# Altium schematic symbol library TPI_time_timer.SCHLIB: 59 symbols
Pins are listed as number, name and electrical type; pins without a type are passive.

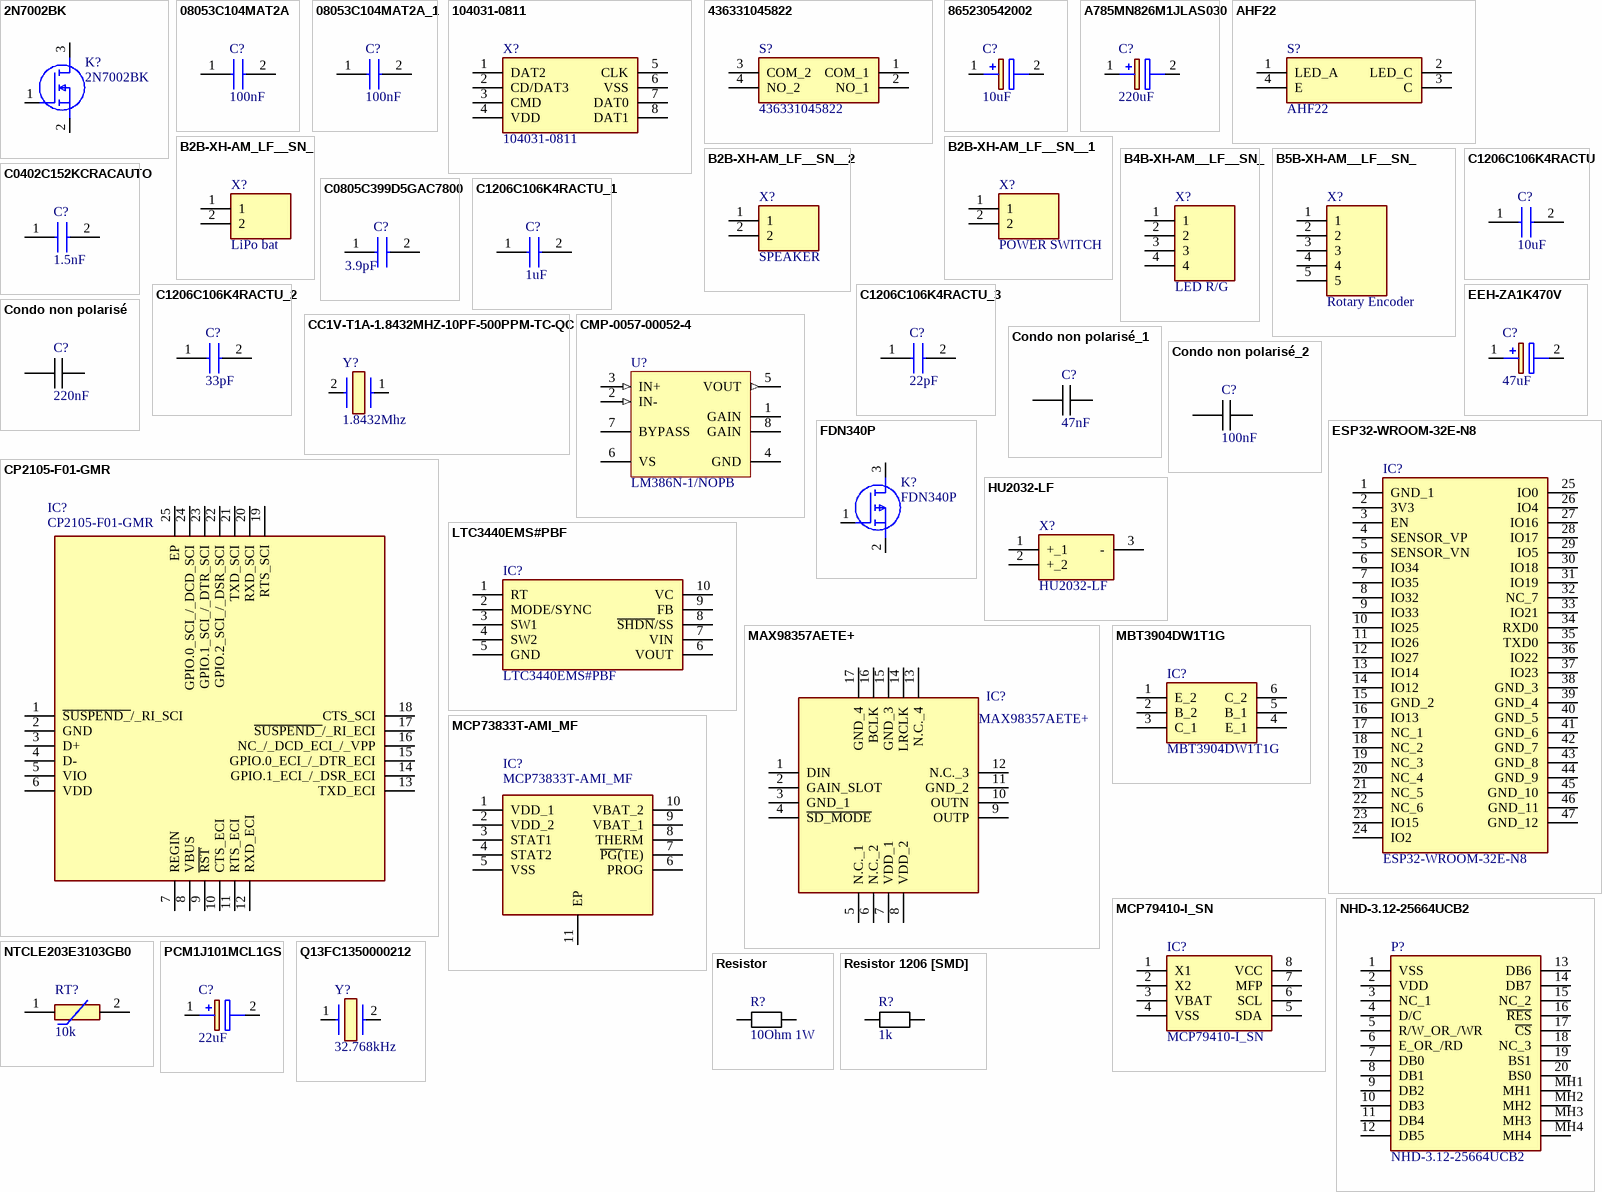
[diagram p0: symbols 2N7002BK to Resistor 1206 [SMD]]

## 2N7002BK
designator K?
MOSFET (N-Channel); Manufacturer_Name: Nexperia; Datasheet Link: https://componentsearchengine.com/Datasheets/2/2N7002BK.pdf; Height: 1.1mm; Manufacturer_Part_Number: 2N7002BK; Mouser Part Number: N/A; Mouser Price/Stock: https://www.mouser.co.uk/ProductDetail/Nexperia/2N7002BK?qs=vHuUswq2%252Bsy7zq%252BdG1DqyA%3D%3D
footprint TL431CDBZR215
pins: 1 G, 2 S, 3 D

## 08053C104MAT2A
designator C?, comment 100nF
Capacitor; Manufacturer_Name: AVX; Manufacturer_Part_Number: 08053C104MAT2A; Datasheet Link: https://spicat.kyocera-avx.com/product/mlcc/chartview/08053C104MAT2A/DataSheet/X7R; Height: 0.94mm; Mouser Part Number: 581-08053C104M; Mouser Price/Stock: https://www.mouser.co.uk/ProductDetail/AVX/08053C104MAT2A?qs=iAmswNBQWa3yww%252Bhw1tBQA%3D%3D; Arrow Part Number: 08053C104MAT2A; Arrow Price/Stock: https://www.arrow.com/en/products/08053c104mat2a/avx
footprint CAPC2012X94N
footprint MyCapacitor 1206 [SMD]
pins: 1, 2

## 08053C104MAT2A_1
designator C?, comment 100nF
Capacitor; Manufacturer_Name: AVX; Manufacturer_Part_Number: 08053C104MAT2A; Datasheet Link: https://spicat.kyocera-avx.com/product/mlcc/chartview/08053C104MAT2A/DataSheet/X7R; Height: 0.94mm; Mouser Part Number: 581-08053C104M; Mouser Price/Stock: https://www.mouser.co.uk/ProductDetail/AVX/08053C104MAT2A?qs=iAmswNBQWa3yww%252Bhw1tBQA%3D%3D; Arrow Part Number: 08053C104MAT2A; Arrow Price/Stock: https://www.arrow.com/en/products/08053c104mat2a/avx
footprint CAPC2012X94N
pins: 1, 2

## 104031-0811
designator X?
Connector; Manufacturer_Name: Molex; Datasheet Link: http://www.molex.com/webdocs/datasheets/pdf/en-us/1040310811_MEMORY_CARD_SOCKET.pdf; Manufacturer_Part_Number: 104031-0811; Mouser Part Number: 538-104031-0811; Mouser Price/Stock: https://www.mouser.co.uk/ProductDetail/Molex/104031-0811?qs=udsGRKD4nA3Tvy7wqky%252BuA%3D%3D
footprint 1040310811
pins: 1 DAT2, 2 CD/DAT3, 3 CMD, 4 VDD, 5 CLK, 6 VSS, 7 DAT0, 8 DAT1

## 436331045822
designator S?
Switch; Manufacturer_Name: Wurth Elektronik; Datasheet Link: https://www.we-online.com/components/products/datasheet/436331045822.pdf; Height: 1.65mm; Manufacturer_Part_Number: 436331045822; Mouser Part Number: 710-436331045822; Mouser Price/Stock: https://www.mouser.co.uk/ProductDetail/Wurth-Elektronik/436331045822?qs=wr8lucFkNMXz9UbduBxtIQ%3D%3D
footprint 436331045822
pins: 1 COM_1, 2 NO_1, 3 COM_2, 4 NO_2

## 865230542002
designator C?, comment 10uF
Capacitor Polarised; Manufacturer_Name: Wurth Elektronik; Manufacturer_Part_Number: 865230542002; Datasheet Link: http://katalog.we-online.com/pbs/datasheet/865230542002.pdf; Height: 5.5mm; Mouser Part Number: 710-865230542002; Mouser Price/Stock: https://www.mouser.co.uk/ProductDetail/Wurth-Elektronik/865230542002?qs=0KOYDY2FL2%2F9Zrx1rvGWxQ%3D%3D
footprint CAPAE530X550N
pins: 1 +, 2 -

## A785MN826M1JLAS030
designator C?, comment 220uF
Capacitor Polarised; Manufacturer_Name: KEMET; Manufacturer_Part_Number: A785MN826M1JLAS030; Datasheet Link: https://www.mouser.co.uk/datasheet/2/447/KEM_A4125_A785-3368732.pdf; Height: 10.5mm; Mouser Part Number: 80-A785MN826M1JLAS30; Mouser Price/Stock: https://www.mouser.co.uk/ProductDetail/KEMET/A785MN826M1JLAS030?qs=HoCaDK9Nz5cVflOfO51YlQ%3D%3D
footprint CAPAE1030X1050N
pins: 1 +, 2 -

## AHF22
designator S?
Relay or Contactor; Manufacturer_Name: Panasonic; Datasheet Link: https://componentsearchengine.com/Datasheets/1/AHF22.pdf; Height: 9.3mm; Manufacturer_Part_Number: AHF22; Mouser Part Number: 769-AHF22; Mouser Price/Stock: https://www.mouser.co.uk/ProductDetail/Panasonic-Industrial-Devices/AHF22?qs=pVDBBu6HaAiqMC5Qh3hM%252Bw%3D%3D
footprint AHF22
pins: 1 LED_A, 2 LED_C, 3 C, 4 E

## B2B-XH-AM_LF__SN_
designator X?, comment LiPo bat
Connector; Manufacturer_Name: JST (JAPAN SOLDERLESS TERMINALS); Manufacturer_Part_Number: B2B-XH-AM(LF)(SN); Datasheet Link: https://www.jst-mfg.com/product/pdf/eng/eXH.pdf; Height: 7mm; Arrow Part Number: B2B-XH-AM(LF)(SN); Arrow Price/Stock: https://www.arrow.com/en/products/b2b-xh-am-lf-sn/jst-manufacturing?region=europe
footprint B2BXHAMLFSN
pins: 1, 2

## B2B-XH-AM_LF__SN__1
designator X?, comment POWER SWITCH
Connector; Manufacturer_Name: JST (JAPAN SOLDERLESS TERMINALS); Manufacturer_Part_Number: B2B-XH-AM(LF)(SN); Datasheet Link: https://www.jst-mfg.com/product/pdf/eng/eXH.pdf; Height: 7mm; Arrow Part Number: B2B-XH-AM(LF)(SN); Arrow Price/Stock: https://www.arrow.com/en/products/b2b-xh-am-lf-sn/jst-manufacturing?region=europe
footprint B2BXHAMLFSN
pins: 1, 2

## B2B-XH-AM_LF__SN__2
designator X?, comment SPEAKER
Connector; Manufacturer_Name: JST (JAPAN SOLDERLESS TERMINALS); Manufacturer_Part_Number: B2B-XH-AM(LF)(SN); Datasheet Link: https://www.jst-mfg.com/product/pdf/eng/eXH.pdf; Height: 7mm; Arrow Part Number: B2B-XH-AM(LF)(SN); Arrow Price/Stock: https://www.arrow.com/en/products/b2b-xh-am-lf-sn/jst-manufacturing?region=europe
footprint B2BXHAMLFSN
pins: 1, 2

## B4B-XH-AM__LF__SN_
designator X?, comment LED R/G
Connector; Manufacturer_Name: JST (JAPAN SOLDERLESS TERMINALS); Manufacturer_Part_Number: B4B-XH-AM (LF)(SN); Datasheet Link: http://www.jst-mfg.com/product/pdf/eng/eXH.pdf; Height: 7mm; Arrow Part Number: B4B-XH-AM (LF)(SN); Arrow Price/Stock: https://www.arrow.com/en/products/b4b-xh-am-lf-sn/jst-manufacturing?region=europe
footprint B4BXHAMLFSN
footprint Header 4pin 2,54mm
pins: 1, 2, 3, 4

## B5B-XH-AM__LF__SN_
designator X?, comment Rotary Encoder
Connector; Manufacturer_Name: JST (JAPAN SOLDERLESS TERMINALS); Manufacturer_Part_Number: B5B-XH-AM (LF)(SN); Datasheet Link: http://uk.rs-online.com/web/p/products/1755317; Height: 7mm; Arrow Part Number: B5B-XH-AM (LF)(SN); Arrow Price/Stock: https://www.arrow.com/en/products/b5b-xh-am-lf-sn/jst-manufacturing
footprint B5BXHAMLFSN
pins: 1, 2, 3, 4, 5

## C0402C152KCRACAUTO
designator C?, comment 1.5nF
Capacitor; Manufacturer_Name: KEMET; Manufacturer_Part_Number: C0402C152KCRACAUTO; Datasheet Link: https://www.mouser.com/datasheet/2/447/KEM_C1076_X7R_HV_AUTO_SMD-3316842.pdf; Height: 0.6mm; Mouser Part Number: 80-C0402C152KCRAUTO; Mouser Price/Stock: https://www.mouser.co.uk/ProductDetail/KEMET/C0402C152KCRACAUTO?qs=1Kr7Jg1SGW8RiYGiZabm2g%3D%3D
footprint CAPC1005X60N
footprint MyCapacitor 1206 [SMD]
pins: 1, 2

## C0805C399D5GAC7800
designator C?, comment 3.9pF
Capacitor; Manufacturer_Name: KEMET; Manufacturer_Part_Number: C0805C399D5GAC7800; Datasheet Link: https://connect.kemet.com:7667/gateway/IntelliData-ComponentDocumentation/1.0/download/specsheet/C0805C399D5GACTU; Height: 0.88mm; Mouser Part Number: N/A; Mouser Price/Stock: https://www.mouser.co.uk/ProductDetail/KEMET/C0805C399D5GAC7800?qs=HB7DuPrg59p8fcBF%252BMtP%252BQ%3D%3D
footprint CAPC2012X88N
pins: 1, 2

## C1206C106K4RACTU
designator C?, comment 10uF
Capacitor; Manufacturer_Name: KEMET; Manufacturer_Part_Number: C1206C106K4RACTU; Datasheet Link: https://content.kemet.com/datasheets/KEM_C1002_X7R_SMD.pdf; Mouser Part Number: 80-C1206C106K4R; Mouser Price/Stock: https://www.mouser.co.uk/ProductDetail/KEMET/C1206C106K4RACTU?qs=guDyKOyRtV0mxqxQedB7kA%3D%3D; Arrow Part Number: C1206C106K4RACTU; Arrow Price/Stock: https://www.arrow.com/en/products/c1206c106k4ractu/kemet-corporation?region=nac
footprint C1206
pins: 1, 2

## C1206C106K4RACTU_1
designator C?, comment 1uF
Capacitor; Manufacturer_Name: KEMET; Manufacturer_Part_Number: C1206C106K4RACTU; Datasheet Link: https://content.kemet.com/datasheets/KEM_C1002_X7R_SMD.pdf; Mouser Part Number: 80-C1206C106K4R; Mouser Price/Stock: https://www.mouser.co.uk/ProductDetail/KEMET/C1206C106K4RACTU?qs=guDyKOyRtV0mxqxQedB7kA%3D%3D; Arrow Part Number: C1206C106K4RACTU; Arrow Price/Stock: https://www.arrow.com/en/products/c1206c106k4ractu/kemet-corporation?region=nac
footprint C1206
footprint MyCapacitor 1206 [SMD]
pins: 1, 2

## C1206C106K4RACTU_2
designator C?, comment 33pF
Capacitor; Manufacturer_Name: KEMET; Manufacturer_Part_Number: C1206C106K4RACTU; Datasheet Link: https://content.kemet.com/datasheets/KEM_C1002_X7R_SMD.pdf; Mouser Part Number: 80-C1206C106K4R; Mouser Price/Stock: https://www.mouser.co.uk/ProductDetail/KEMET/C1206C106K4RACTU?qs=guDyKOyRtV0mxqxQedB7kA%3D%3D; Arrow Part Number: C1206C106K4RACTU; Arrow Price/Stock: https://www.arrow.com/en/products/c1206c106k4ractu/kemet-corporation?region=nac
footprint C1206
pins: 1, 2

## C1206C106K4RACTU_3
designator C?, comment 22pF
Capacitor; Manufacturer_Name: KEMET; Manufacturer_Part_Number: C1206C106K4RACTU; Datasheet Link: https://content.kemet.com/datasheets/KEM_C1002_X7R_SMD.pdf; Mouser Part Number: 80-C1206C106K4R; Mouser Price/Stock: https://www.mouser.co.uk/ProductDetail/KEMET/C1206C106K4RACTU?qs=guDyKOyRtV0mxqxQedB7kA%3D%3D; Arrow Part Number: C1206C106K4RACTU; Arrow Price/Stock: https://www.arrow.com/en/products/c1206c106k4ractu/kemet-corporation?region=nac
footprint C1206
pins: 1, 2

## CC1V-T1A-1.8432MHZ-10PF-500PPM-TC-QC
designator Y?, comment 1.8432Mhz
Crystal or Oscillator; Manufacturer_Name: Micro Crystal AG; Manufacturer_Part_Number: CC1V-T1A-1.8432MHZ-10PF-500PPM-TC-QC; Datasheet Link: https://www.microcrystal.com/fileadmin/Media/Products/32kHz/Datasheet/CC1V-T1A.pdf; Height: 1.75mm; Mouser Part Number: 428-201112-ML01; Mouser Price/Stock: https://www.mouser.co.uk/ProductDetail/Micro-Crystal/CC1V-T1A-1.8432MHz-10pF-500PPM-TC-QC?qs=7bTaA%2FLYtSYjZKB5ii%2FQ6A%3D%3D
footprint CC1AT1A
pins: 1, 2 OUTPUT

## CMP-0057-00052-4
designator U?, comment LM386N-1/NOPB
Low Voltage Audio Power Amplifier, 8-pin MDIP, Pb-Free; Manufacturer: Texas Instruments; Manufacturer: TI National Semiconductor; PackageTopMarking: NSUZXYTTE#*LM*386N-1; PowerWise: N; CompType: Audio IC; RoHS: Y; PackageReference: P0008A; Code_JEDEC: MS-001-BA; PackageDescription: MDIP, .365 x .250 x .130in, 8 Lead, .100in Pitch; PinCount: 8; ComponentLink1URL: http://www.ti.com/general/docs/lit/getliterature.tsp?genericPartNumber=LM386&fileType=pdf; ComponentLink1Description: Datasheet URL; Manufacturer Part Number: LM386N-1/NOPB
footprint P0008A (DIP, 8-Leads, Body 10.15x6.6mm, Pitch 2.54mm)
pins: 1 GAIN, 2 IN- (in), 3 IN+ (in), 4 GND (power), 5 VOUT (out), 6 VS (power), 7 BYPASS, 8 GAIN

## Condo non polarisé
designator C?, comment 220nF
footprint MyCapacitor 1206 [SMD]
footprint Condo metal 300mil
footprint Condo metal 200mil
footprint Condo zarbi
pins: 1, 2

## Condo non polarisé_1
designator C?, comment 47nF
footprint MyCapacitor 1206 [SMD]
footprint Condo metal 300mil
footprint Condo metal 200mil
footprint Condo zarbi
pins: 1, 2

## Condo non polarisé_2
designator C?, comment 100nF
footprint MyCapacitor 1206 [SMD]
footprint Condo metal 300mil
footprint Condo metal 200mil
footprint Condo zarbi
footprint Condo céramique 100mil
pins: 1, 2

## CP2105-F01-GMR
designator IC?
Integrated Circuit; Manufacturer_Name: Silicon Labs; Datasheet Link: https://www.silabs.com/documents/public/data-sheets/CP2105.pdf; Height: 0.8mm; Manufacturer_Part_Number: CP2105-F01-GMR; Mouser Part Number: 634-CP2105-F01-GMR; Mouser Price/Stock: https://www.mouser.co.uk/ProductDetail/Silicon-Labs/CP2105-F01-GMR?qs=1CB38rTTsYoc5Zql7SRZ%2Fw%3D%3D; Arrow Part Number: CP2105-F01-GMR; Arrow Price/Stock: https://www.arrow.com/en/products/cp2105-f01-gmr/silicon-labs?region=nac
footprint QFN50P400X400X80-25N-D
pins: 1 ~{SUSPEND_}/_RI_SCI, 2 GND, 3 D+, 4 D-, 5 VIO, 6 VDD, 7 REGIN, 8 VBUS, 9 ~{RST}, 10 CTS_ECI, 11 RTS_ECI, 12 RXD_ECI, 13 TXD_ECI, 14 GPIO.1_ECI_/_DSR_ECI, 15 GPIO.0_ECI_/_DTR_ECI, 16 NC_/_DCD_ECI_/_VPP, 17 ~{SUSPEND_}/_RI_ECI, 18 CTS_SCI, 19 RTS_SCI, 20 RXD_SCI, 21 TXD_SCI, 22 GPIO.2_SCI_/_DSR_SCI, 23 GPIO.1_SCI_/_DTR_SCI, 24 GPIO.0_SCI_/_DCD_SCI, 25 EP

## EEH-ZA1K470V
designator C?, comment 47uF
Capacitor Polarised; Manufacturer_Name: Panasonic; Manufacturer_Part_Number: EEH-ZA1K470V; Datasheet Link: http://industrial.panasonic.com/cdbs/www-data/pdf/RDD0000/ABA0000C1221.pdf; Height: 10.5mm; Mouser Part Number: 667-EEH-ZA1K470V; Mouser Price/Stock: https://www.mouser.co.uk/ProductDetail/Panasonic/EEH-ZA1K470V?qs=1Kr7Jg1SGW%2FtZcuby2Gpxw%3D%3D
footprint EEHZT1E561UV
pins: 1 +_1, 2 -_1

## ESP32-WROOM-32E-N8
designator IC?
Integrated Circuit; Manufacturer_Name: Espressif Systems; Datasheet Link: https://www.google.com/url?sa=t&rct=j&q=&esrc=s&source=web&cd=&ved=2ahUKEwjLw4ysybv2AhXFzIUKHZUbB64QFnoECCwQAQ&url=https%3A%2F%2Fwww.espressif.com%2Fsites%2Fdefault%2Ffiles%2Fdocumentation%2Fesp32-wroom-32e_esp32-wroom-32ue_datasheet_en.pdf&usg=AOvVaw1xSL; Height: 3.25mm; Manufacturer_Part_Number: ESP32-WROOM-32E-N8; Mouser Part Number: 356-ESP32WRM32E164PH; Mouser Price/Stock: https://www.mouser.co.uk/ProductDetail/Espressif-Systems/ESP32-WROOM-32E-N8?qs=Li%252BoUPsLEnsLnZW%252BGLgUhw%3D%3D
footprint ESP32WROOM32EN8
pins: 1 GND_1, 2 3V3, 3 EN, 4 SENSOR_VP, 5 SENSOR_VN, 6 IO34, 7 IO35, 8 IO32, 9 IO33, 10 IO25, 11 IO26, 12 IO27, 13 IO14, 14 IO12, 15 GND_2, 16 IO13, 17 NC_1, 18 NC_2, 19 NC_3, 20 NC_4, 21 NC_5, 22 NC_6, 23 IO15, 24 IO2, 25 IO0, 26 IO4, 27 IO16, 28 IO17, 29 IO5, 30 IO18, 31 IO19, 32 NC_7, 33 IO21, 34 RXD0, 35 TXD0, 36 IO22, 37 IO23, 38 GND_3, 39 GND_4, 40 GND_5, 41 GND_6, 42 GND_7, 43 GND_8, 44 GND_9, 45 GND_10, 46 GND_11, 47 GND_12

## FDN340P
designator K?
MOSFET (P-Channel); Manufacturer_Name: Rochester Electronics; Height: 1.12mm; Manufacturer_Part_Number: FDN340P
footprint SOT95P251X112-3N
pins: 1 G, 2 S, 3 D

## HU2032-LF
designator X?
Undefined or Miscellaneous; Manufacturer_Name: RENATA; Datasheet Link: https://componentsearchengine.com/Datasheets/2/HU2032-LF.pdf; Manufacturer_Part_Number: HU2032-LF; Mouser Part Number: 614-HU2032-LF; Mouser Price/Stock: https://www.mouser.co.uk/ProductDetail/Renata/HU2032-LF?qs=oUsD4qhOtFwA99zRPu3JIQ%3D%3D
footprint HU2032LF
pins: 1 +_1, 2 +_2, 3 -

## LTC3440EMS#PBF
designator IC?
Integrated Circuit; Manufacturer_Name: Analog Devices; Datasheet Link: https://www.analog.com/media/en/technical-documentation/data-sheets/3440fd.pdf; Height: 1.1mm; Manufacturer_Part_Number: LTC3440EMS#PBF; Mouser Part Number: 584-LTC3440EMS#PBF; Mouser Price/Stock: https://www.mouser.co.uk/ProductDetail/Analog-Devices/LTC3440EMSPBF?qs=hVkxg5c3xu%2F50%252Bg90voenw%3D%3D; Arrow Part Number: LTC3440EMS#PBF; Arrow Price/Stock: https://www.arrow.com/en/products/ltc3440emspbf/analog-devices?region=nac
footprint SOP50P490X110-10N
pins: 1 RT, 2 MODE/SYNC, 3 SW1, 4 SW2, 5 GND, 6 VOUT, 7 VIN, 8 ~{SHDN}/SS, 9 FB, 10 VC

## MAX98357AETE+
designator IC?
Integrated Circuit; Manufacturer_Name: Analog Devices; Datasheet Link: https://datasheets.maximintegrated.com/en/ds/MAX98357A-MAX98357B.pdf; Height: 0.8mm; Manufacturer_Part_Number: MAX98357AETE+; Mouser Part Number: 700-MAX98357AETE+; Mouser Price/Stock: https://www.mouser.co.uk/ProductDetail/Analog-Devices-Maxim-Integrated/MAX98357AETE%2b?qs=AAveGqk956EyS6m3AmZeuw%3D%3D
footprint QFN50P300X300X80-17N
pins: 1 DIN, 2 GAIN_SLOT, 3 GND_1, 4 ~{SD_MODE}, 5 N.C._1, 6 N.C._2, 7 VDD_1, 8 VDD_2, 9 OUTP, 10 OUTN, 11 GND_2, 12 N.C._3, 13 N.C._4, 14 LRCLK, 15 GND_3, 16 BCLK, 17 GND_4

## MBT3904DW1T1G
designator IC?
Integrated Circuit; Manufacturer_Name: onsemi; Datasheet Link: http://www.onsemi.com/pub/Collateral/MBT3904DW1T1-D.PDF; Height: 1.1mm; Manufacturer_Part_Number: MBT3904DW1T1G; Mouser Part Number: 863-MBT3904DW1T1G; Mouser Price/Stock: https://www.mouser.co.uk/ProductDetail/onsemi/MBT3904DW1T1G?qs=3JMERSakebosaBSFCYL6kw%3D%3D; Arrow Part Number: MBT3904DW1T1G; Arrow Price/Stock: https://www.arrow.com/en/products/mbt3904dw1t1g/on-semiconductor?region=nac
footprint SOT65P210X110-6N
pins: 1 E_2, 2 B_2, 3 C_1, 4 E_1, 5 B_1, 6 C_2

## MCP73833T-AMI_MF
designator IC?
Integrated Circuit; Manufacturer_Name: Microchip; Manufacturer_Part_Number: MCP73833T-AMI/MF; Datasheet Link: https://datasheet.datasheetarchive.com/originals/distributors/SFDatasheet-4/sf-00090109.pdf; Height: 1mm; Mouser Part Number: 579-MCP73833T-AMI/MF; Mouser Price/Stock: https://www.mouser.co.uk/ProductDetail/Microchip-Technology/MCP73833T-AMI-MF?qs=Fxu3fLyJv8epbqy6GsGQQA%3D%3D; Arrow Part Number: MCP73833T-AMI/MF; Arrow Price/Stock: https://www.arrow.com/en/products/mcp73833t-amimf/microchip-technology?region=nac
footprint SON50P300X300X100-11N-D
pins: 1 VDD_1, 2 VDD_2, 3 STAT1, 4 STAT2, 5 VSS, 6 PROG, 7 ~{PG(}TE), 8 THERM, 9 VBAT_1, 10 VBAT_2, 11 EP

## MCP79410-I_SN
designator IC?
Integrated Circuit; Manufacturer_Name: Microchip; Manufacturer_Part_Number: MCP79410-I/SN; Datasheet Link: https://datasheet.datasheetarchive.com/originals/distributors/Datasheets-DGA3/278325.pdf; Height: 1.75mm; Mouser Part Number: 579-MCP79410-I/SN; Mouser Price/Stock: https://www.mouser.co.uk/ProductDetail/Microchip-Technology-Atmel/MCP79410-I-SN?qs=LU7oW20kJpNhp%252BQbxumdTQ%3D%3D; Arrow Part Number: MCP79410-I/SN; Arrow Price/Stock: https://www.arrow.com/en/products/mcp79410-isn/microchip-technology?region=nac
footprint SOIC127P600X175-8N
pins: 1 X1, 2 X2, 3 VBAT, 4 VSS, 5 SDA, 6 SCL, 7 MFP, 8 VCC

## NHD-3.12-25664UCB2
designator P?
Display; Manufacturer_Name: Newhaven Display; Datasheet Link: https://componentsearchengine.com/Datasheets/1/NHD-3.12-25664UCB2.pdf; Height: 3.5mm; Manufacturer_Part_Number: NHD-3.12-25664UCB2; Mouser Part Number: 763-3.12-25664UCB2; Mouser Price/Stock: https://www.mouser.co.uk/ProductDetail/Newhaven-Display/NHD-3.12-25664UCB2?qs=EQmeiuRlVUSDyFGBqw5j5w%3D%3D
footprint NHD31225664UCB2
pins: 1 VSS, 2 VDD, 3 NC_1, 4 D/C, 5 R/W_OR_/WR, 6 E_OR_/RD, 7 DB0, 8 DB1, 9 DB2, 10 DB3, 11 DB4, 12 DB5, 13 DB6, 14 DB7, 15 NC_2, 16 ~{RES}, 17 ~{CS}, 18 NC_3, 19 BS1, 20 BS0, MH1, MH2, MH3, MH4

## NTCLE203E3103GB0
designator RT?, comment 10k
Thermistor; Manufacturer_Name: Vishay; Manufacturer_Part_Number: NTCLE203E3103GB0; Datasheet Link: https://componentsearchengine.com/Datasheets/2/NTCLE203E3103GB0.pdf; Height: 9mm; Mouser Part Number: 594-NTCLE203E3103GB0; Mouser Price/Stock: https://www.mouser.co.uk/ProductDetail/Vishay-BC-Components/NTCLE203E3103GB0?qs=8wHch9UpSva5qDw7iC%2Fpmw%3D%3D; Arrow Part Number: NTCLE203E3103GB0; Arrow Price/Stock: https://www.arrow.com/en/products/ntcle203e3103gb0/vishay
footprint NTCLE203E3103GB0
pins: 1, 2

## PCM1J101MCL1GS
designator C?, comment 22uF
Capacitor Polarised; Manufacturer_Name: Nichicon; Manufacturer_Part_Number: PCM1J101MCL1GS; Datasheet Link: https://www.nichicon.co.jp/english/series_items/catalog_pdf/e-pcm.pdf; Height: 13.1mm
footprint CAPAE1030X1310N
pins: 1 +, 2 -

## Q13FC1350000212
designator Y?, comment 32.768kHz
Crystal or Oscillator; Manufacturer_Name: Epson Timing; Manufacturer_Part_Number: Q13FC1350000212; Datasheet Link: https://docs.rs-online.com/a620/0900766b80ce11f4.pdf; Height: 0.8mm
footprint Q13FC1350000212
pins: 1, 2

## Resistor
designator R?, comment 10Ohm 1W
footprint Resistor 1206
footprint Resistor sandard tr.
footprint Rpuissance
pins: 1, 2

## Resistor 1206 [SMD]
designator R?, comment 1k
footprint Resistor 1206
pins: 1, 2

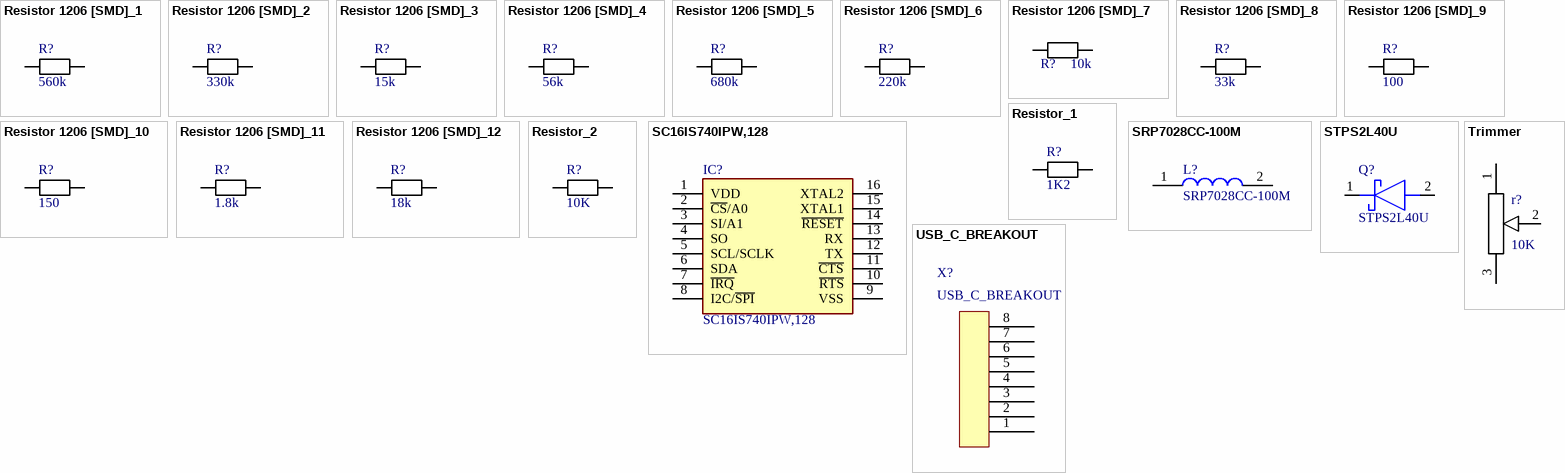
[diagram p1: symbols Resistor 1206 [SMD]_1 to USB_C_BREAKOUT]

## Resistor 1206 [SMD]_1
designator R?, comment 560k
footprint Resistor 1206
pins: 1, 2

## Resistor 1206 [SMD]_2
designator R?, comment 330k
footprint Resistor 1206
pins: 1, 2

## Resistor 1206 [SMD]_3
designator R?, comment 15k
footprint Resistor 1206
pins: 1, 2

## Resistor 1206 [SMD]_4
designator R?, comment 56k
footprint Resistor 1206
pins: 1, 2

## Resistor 1206 [SMD]_5
designator R?, comment 680k
footprint Resistor 1206
pins: 1, 2

## Resistor 1206 [SMD]_6
designator R?, comment 220k
footprint Resistor 1206
pins: 1, 2

## Resistor 1206 [SMD]_7
designator R?, comment 10k
footprint Resistor 1206
pins: 1, 2

## Resistor 1206 [SMD]_8
designator R?, comment 33k
footprint Resistor 1206
pins: 1, 2

## Resistor 1206 [SMD]_9
designator R?, comment 100
footprint Resistor 1206
pins: 1, 2

## Resistor 1206 [SMD]_10
designator R?, comment 150
footprint Resistor 1206
pins: 1, 2

## Resistor 1206 [SMD]_11
designator R?, comment 1.8k
footprint Resistor 1206
pins: 1, 2

## Resistor 1206 [SMD]_12
designator R?, comment 18k
footprint Resistor 1206
pins: 1, 2

## Resistor_1
designator R?, comment 1K2
footprint Resistor 1206
footprint Resistor sandard tr.
footprint Rpuissance
pins: 1, 2

## Resistor_2
designator R?, comment 10K
footprint Resistor 1206
footprint Resistor sandard tr.
footprint Rpuissance
pins: 1, 2

## SC16IS740IPW,128
designator IC?
Integrated Circuit; Manufacturer_Name: NXP; Datasheet Link: http://www.nxp.com/docs/en/data-sheet/SC16IS740_750_760.pdf; Height: 1.1mm; Manufacturer_Part_Number: SC16IS740IPW,128; Mouser Part Number: 771-SC16IS0IPW128; Mouser Price/Stock: https://www.mouser.co.uk/ProductDetail/NXP-Semiconductors/SC16IS740IPW128?qs=LOCUfHb8d9tH8aPSiCB%2F4g%3D%3D; Arrow Part Number: SC16IS740IPW,128; Arrow Price/Stock: https://www.arrow.com/en/products/sc16is740ipw128/nxp-semiconductors?region=nac
footprint SOP65P640X110-16N
pins: 1 VDD, 2 ~{CS}/A0, 3 SI/A1, 4 SO, 5 SCL/SCLK, 6 SDA, 7 ~{IRQ}, 8 I2C/~{SPI}, 9 VSS, 10 ~{RTS}, 11 ~{CTS}, 12 TX, 13 RX, 14 ~{RESET}, 15 XTAL1, 16 XTAL2

## SRP7028CC-100M
designator L?
Inductor; Manufacturer_Name: Bourns; Datasheet Link: https://www.bourns.com/docs/Product-Datasheets/SRP7028CC.pdf; Height: 3mm; Manufacturer_Part_Number: SRP7028CC-100M; Mouser Part Number: 652-SRP7028CC-100M; Mouser Price/Stock: https://www.mouser.co.uk/ProductDetail/Bourns/SRP7028CC-100M?qs=1Kr7Jg1SGW%252BFrchEKUd2WQ%3D%3D
footprint INDPM7366X300N
pins: 1, 2

## STPS2L40U
designator Q?
Schottky Diode; Manufacturer_Name: STMicroelectronics; Datasheet Link: https://www.st.com/resource/en/datasheet/stps2l40.pdf; Height: 2.65mm; Manufacturer_Part_Number: STPS2L40U; Mouser Part Number: 511-STPS2L40U; Mouser Price/Stock: https://www.mouser.co.uk/ProductDetail/STMicroelectronics/STPS2L40U?qs=JV7lzlMm3yIPHfBydn9ktg%3D%3D; Arrow Part Number: STPS2L40U; Arrow Price/Stock: https://www.arrow.com/en/products/stps2l40u/stmicroelectronics?region=nac
footprint DIOM5436X265N
pins: 1 K, 2 A

## Trimmer
designator r?, comment 10K
footprint Trimmer 1
footprint PVG3A103C01R00
pins: 1 76, 2 78, 3 77

## USB_C_BREAKOUT
designator X?
footprint USB_C_BREAKOUT
pins: 1 67, 2 66, 3 65, 4 64, 5 63, 6 62, 7 61, 8 60